# Altium schematic symbol library Varistor.SchLib: 4 symbols
Pins are listed as number, name and electrical type; pins without a type are passive.

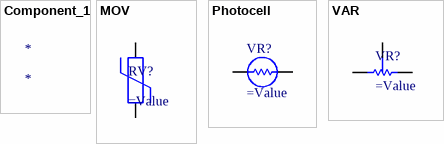
[diagram p0: symbols Component_1 to VAR]

## Component_1
designator *

## MOV
designator RV?
=Description
pins: 1, 2

## Photocell
designator VR?
=Description
pins: 1, 2

## VAR
designator VR?
=Description
pins: 1, 2, 3